# Altium footprint library 691 243 310 0xx.PcbLib: 7 footprints
Each footprint in its own frame and in the unit in brackets; x right, y up, seen from the top. Pads: shape width x height; smd on the part's side, far side on the other; paste and mask are expansions set on the pad; w line width, h text height; cw(c..) or ccw(c..) is an arc to the next point about the centre after c.
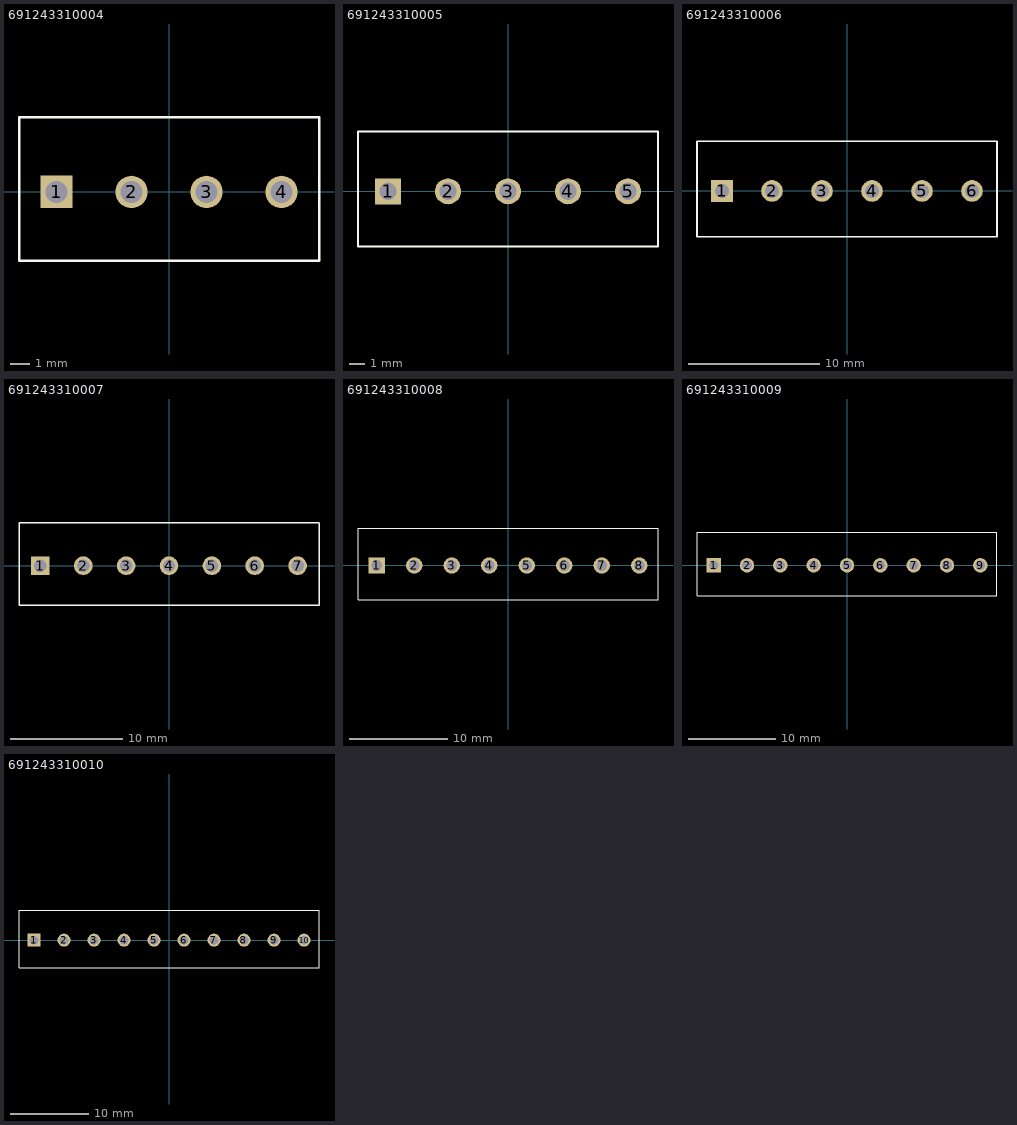
[diagram p0: the footprints below, top view; thin cyan lines are the x and y axes]

## 691243310004 [mm] "Serie 2433 - 3.81 mm _ 4 pins"
height 9.1
pads (4):
  rect 1.65x1.65 hole 1.1: 1(-5.715,0)
  round 1.65 hole 1.1: 2(-1.905,0) 3(1.905,0) 4(5.715,0)
Top Overlay:
  lines w0.127: -7.62,-3.5 7.62,-3.5 7.62,3.8 -7.62,3.8 -7.62,-3.5
3D body: height 9.1, standoff -3.5, extent -7.6,-3.5 7.64,3.8

## 691243310005 [mm] "Serie 2433 - 3.81 mm _ 5 pins"
height 9.1
pads (5):
  rect 1.65x1.65 hole 1.1: 1(-7.62,0)
  round 1.65 hole 1.1: 2(-3.81,0) 3(0,0) 4(3.81,0) 5(7.62,0)
Top Overlay:
  lines w0.127: -9.525,-3.5 -9.525,3.8 ; -9.5,-3.5 9.525,-3.5 9.525,3.8 ; -9.5,3.8 9.5,3.8
3D body: height 9.1, standoff -3.5, extent -9.55,-3.5 9.5,3.8

## 691243310006 [mm] "Serie 2433 - 3.81 mm _ 6 pins"
height 9.1
pads (6):
  rect 1.65x1.65 hole 1.1: 1(-9.525,0)
  round 1.65 hole 1.1: 2(-5.715,0) 3(-1.905,0) 4(1.905,0) 5(5.715,0) 6(9.525,0)
Top Overlay:
  lines w0.127: -11.43,3.8 -11.43,-3.5 11.43,-3.5 11.43,3.77 11.4,3.8 -11.4,3.8
3D body: height 9.1, standoff -3.5, extent -11.45,-3.5 11.41,3.8

## 691243310007 [mm] "Serie 2433 - 3.81 mm _ 7 pins"
height 9.1
pads (7):
  rect 1.65x1.65 hole 1.1: 1(-11.43,0)
  round 1.65 hole 1.1: 2(-7.62,0) 3(-3.81,0) 4(0,0) 5(3.81,0) 6(7.62,0) 7(11.43,0)
Top Overlay:
  lines w0.127: 13.335,3.77 13.335,-3.5 -13.335,-3.5 -13.335,3.8 13.335,3.8
3D body: height 9.1, standoff -3.5, extent -13.35,-3.5 13.32,3.8

## 691243310008 [mm] "Serie 2433 - 3.81 mm _ 8 pins"
height 9.1
pads (8):
  rect 1.65x1.65 hole 1.1: 1(-13.335,0)
  round 1.65 hole 1.1: 2(-9.525,0) 3(-5.715,0) 4(-1.905,0) 5(1.905,0) 6(5.715,0) 7(9.525,0) 8(13.335,0)
Top Overlay:
  lines w0.127: 15.23,3.8 -15.24,3.8 -15.24,-3.5 15.24,-3.5 15.24,3.77
3D body: height 9.1, standoff -3.5, extent -15.24,-3.52 15.24,3.78

## 691243310009 [mm] "Serie 2433 - 3.81 mm _ 9 pins"
height 9.1
pads (9):
  rect 1.65x1.65 hole 1.1: 1(-15.24,0)
  round 1.65 hole 1.1: 2(-11.43,0) 3(-7.62,0) 4(-3.81,0) 5(0,0) 6(3.81,0) 7(7.62,0) 8(11.43,0) 9(15.24,0)
Top Overlay:
  lines w0.127: 17.145,3.77 17.145,-3.5 -17.145,-3.5 -17.145,3.8 17.145,3.8
3D body: height 9.1, standoff -3.5, extent -17.14,-3.49 17.15,3.81

## 691243310010 [mm] "Serie 2433 - 3.81 mm _ 10 pins"
height 9.1
pads (10):
  rect 1.65x1.65 hole 1.1: 1(-17.145,0)
  round 1.65 hole 1.1: 2(-13.335,0) 3(-9.525,0) 4(-5.715,0) 5(-1.905,0) 6(1.905,0) 7(5.715,0) 8(9.525,0) 9(13.335,0) 10(17.145,0)
Top Overlay:
  lines w0.127: 19.05,3.77 19.05,-3.5 -19.05,-3.5 -19.05,3.8 19.05,3.8
3D body: height 9.1, standoff -3.5, extent -19.05,-3.51 19.05,3.79